# EAGLE library part UCC27524P (library micromousev2Parts)
Dual, 5A, High-Speed Low-Side Power MOSFET Driver Source: Datasheet <http://www.ti.com/lit/gpn/ucc27524>
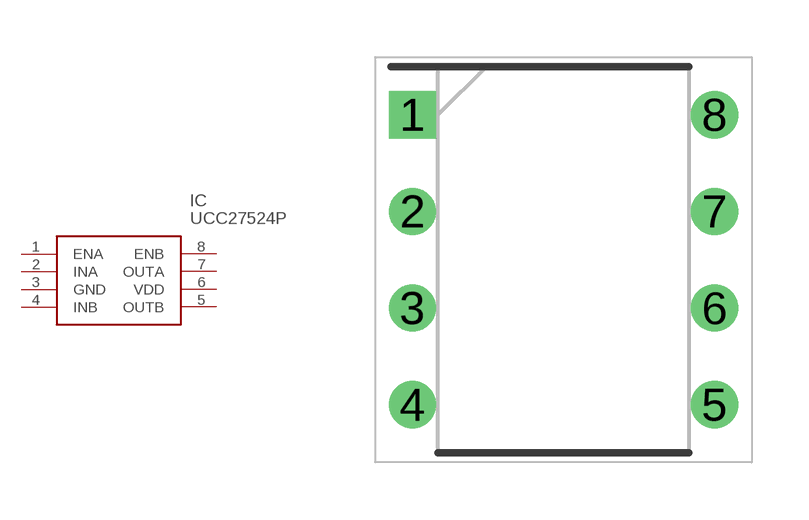
[diagram p5: symbol with the pads of DIP794W53P254L959H508Q8N; footprint DIP794W53P254L959H508Q8N]

Designator prefix IC

## UCC27524P (ARROW_PART_NUMBER: UCC27524P; ARROW_PRICE/STOCK: https://www.arrow.com/en/products/ucc27524p/texas-instruments; DESCRIPTION: Dual, 5A, High-Speed Low-Side Power MOSFET Driver; HEIGHT: 5.08mm; MANUFACTURER_NAME: Texas Instruments; MANUFACTURER_PART_NUMBER: UCC27524P; RS_PART_NUMBER: 1219384; RS_PRICE/STOCK: http://uk.rs-online.com/web/p/products/1219384)  [DIP794W53P254L959H508Q8N]
1  ENA  in
2  INA  in
3  GND  pwr
4  INB  in
5  OUTB  in
6  VDD  pwr
7  OUTA  pwr
8  ENB  in

## Footprint DIP794W53P254L959H508Q8N (pad centres in mm)
PDIP
drill 0.73 pad 1.13 square: 1 -3.97,3.81
drill 0.73 pad 1.13: 2 -3.97,1.27; 3 -3.97,-1.27; 4 -3.97,-3.81; 5 3.97,-3.81; 6 3.97,-1.27; 7 3.97,1.27; 8 3.97,3.81